# Altium integrated library ESP32-DEVKITC-32E.IntLib: 1 symbol
Pins are listed as number, name and electrical type; pins without a type are passive.

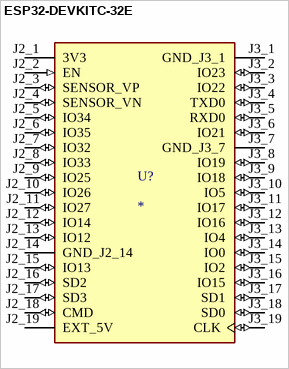
[diagram p0: symbol ESP32-DEVKITC-32E]

## ESP32-DEVKITC-32E
designator U?
The ESP32-DEVKITC-32E transceiver evaluation board from Espressif Systems is a powerful development tool for wireless communication technologies. It supports 802.11 b/g/n Wi-Fi and BluetoothÂ® Smart Ready 4.x (BLE) dual-mode at 2.4GHz, making it ideal for; SnapEDA_Link: https://www.snapeda.com/parts/ESP32-DEVKITC-32E/Espressif+Systems/view-part/?ref=snap; Package: None; Value: *; MF: Espressif Systems; MP: ESP32-DEVKITC-32E; Check_prices: https://www.snapeda.com/parts/ESP32-DEVKITC-32E/Espressif+Systems/view-part/?ref=eda
footprint MODULE_ESP32-DEVKITC-32E
pins: J2_1 3V3 (power), J2_2 EN (in), J2_3 SENSOR_VP (io), J2_4 SENSOR_VN (io), J2_5 IO34 (io), J2_6 IO35 (io), J2_7 IO32 (io), J2_8 IO33 (io), J2_9 IO25 (io), J2_10 IO26 (io), J2_11 IO27 (io), J2_12 IO14 (io), J2_13 IO12 (io), J2_14 GND_J2_14 (power), J2_15 IO13 (io), J2_16 SD2 (io), J2_17 SD3 (io), J2_18 CMD (io), J2_19 EXT_5V (power), J3_1 GND_J3_1 (power), J3_2 IO23 (io), J3_3 IO22 (io), J3_4 TXD0 (io), J3_5 RXD0 (io), J3_6 IO21 (io), J3_7 GND_J3_7 (power), J3_8 IO19 (io), J3_9 IO18 (io), J3_10 IO5 (io), J3_11 IO17 (io), J3_12 IO16 (io), J3_13 IO4 (io), J3_14 IO0 (io), J3_15 IO2 (io), J3_16 IO15 (io), J3_17 SD1 (io), J3_18 SD0 (io), J3_19 CLK (io)